# Altium footprint library QSTL_M12C_BNC.PcbLib: 6 footprints
Each footprint in its own frame and in the unit in brackets; x right, y up, seen from the top. Pads: shape width x height; smd on the part's side, far side on the other; paste and mask are expansions set on the pad; w line width, h text height; cw(c..) or ccw(c..) is an arc to the next point about the centre after c.
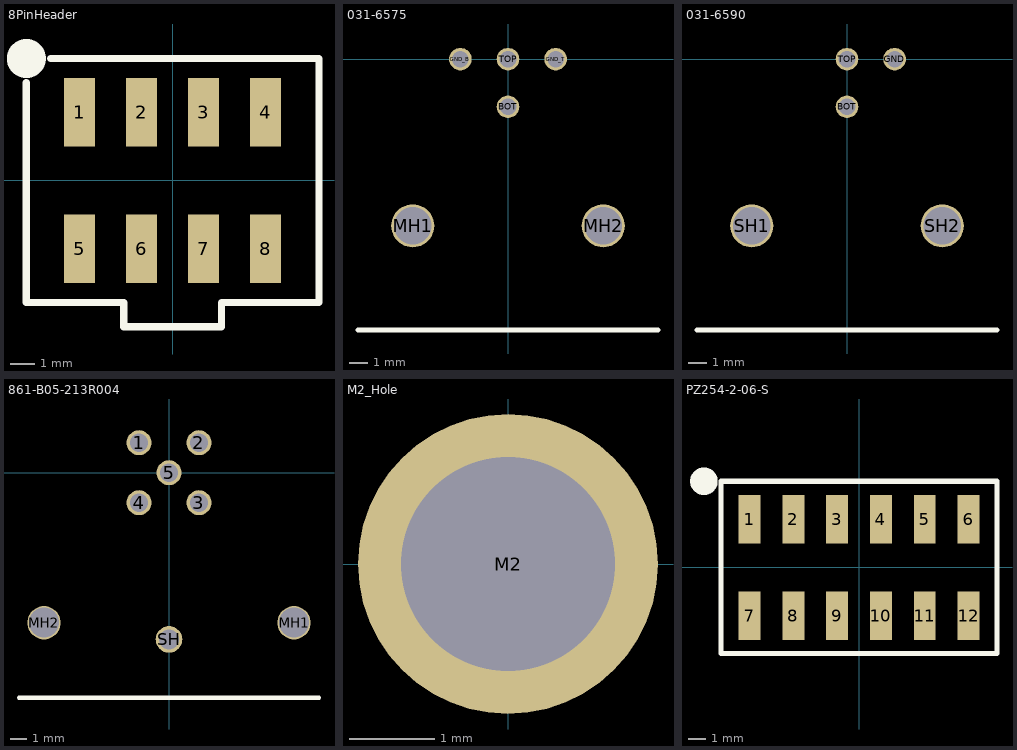
[diagram p0: the footprints below, top view; thin cyan lines are the x and y axes]

## 8PinHeader [mm] "https://jlcpcb.com/partdetail/221271-2_54_2_4P/C192300"
pads (8):
  rect 1.27x2.8 smd: 1(-3.81,2.8) 2(-1.27,2.8) 3(1.27,2.8) 4(3.81,2.8) 5(-3.81,-2.8) 6(-1.27,-2.8) 7(1.27,-2.8) 8(3.81,-2.8)
Top Overlay:
  circle w1: c-6,5 r0.3
  lines w0.3: -6,4 -6,-5 -2,-5 -2,-6 2,-6 2,-5 6,-5 6,5 -5,5

## 031-6575 [mm] "https://www.digikey.ca/en/products/detail/amphenol-rf/031-6590/4037245"
pads (6):
  round 1.2 hole 0.89: BOT(0,-2.54) GND_B(-2.54,0) GND_T(2.54,0) TOP(0,0)
  round 2.3 hole 2.01: MH1(-5.08,-8.89) MH2(5.08,-8.89)
Top Overlay:
  lines w0.254: -8,-14.45 8,-14.45
3D body "031-6575.stp": height 29.44, standoff -3.92, extent -7.2,-35.762 7.2,0.44

## 031-6590 [mm] "https://www.digikey.ca/en/products/detail/amphenol-rf/031-6590/4037245"
pads (5):
  round 1.2 hole 0.89: BOT(0,-2.54) GND(2.54,0) TOP(0,0)
  round 2.3 hole 2.01: SH1(-5.08,-8.89) SH2(5.08,-8.89)
Top Overlay:
  lines w0.254: -8,-14.45 8,-14.45
3D body "31-6590.stp": height 32.34, standoff -4.29, extent -8.212,-35.275 8.212,1.235

## 861-B05-213R004 [mm] "https://www.digikey.ca/en/products/detail/norcomp-inc/861-B05-213R004/22611951?s=N4IgTCBcDaIBwDYCMBaAQgBgKwrEgzAEoYYAsIAugL5App"
pads (8):
  round 1.5 hole 1.1: 1(-1.8,1.8) 2(1.8,1.8) 3(1.8,-1.8) 4(-1.8,-1.8) 5(0,0)
  round 2 hole 1.8: MH1(7.5,-9) MH2(-7.5,-9)
  round 1.6 hole 1.2: SH(0,-10)
Top Overlay:
  lines w0.254: -9,-13.5 9,-13.5
3D body "861-B05-213R004.STEP": height 20.5, standoff -3.1, extent -10.25,-27.75 10.25,4

## M2_Hole [mm] "M2 Hole"
pads (1):
  round 3.5 hole 2.5: M2(0,0)

## PZ254-2-06-S [mm] "https://jlcpcb.com/partdetail/HCTL-PZ254_2_06S/C3294464"
pads (12):
  rect 1.27x2.8 smd: 1(-6.35,2.8) 2(-3.81,2.8) 3(-1.27,2.8) 4(1.27,2.8) 5(3.81,2.8) 6(6.35,2.8) 7(-6.35,-2.8) 8(-3.81,-2.8) 9(-1.27,-2.8) 10(1.27,-2.8) 11(3.81,-2.8) 12(6.35,-2.8)
Top Overlay:
  circle w0.8: c-9,5 r0.4
  lines w0.3: -8,-5 8,-5 8,5 -8,5 -8,-5
3D body "PinHeader.stp": height 9.57, standoff -0.03, extent -7.62,-3.75 7.62,3.75